# Altium footprint library Barrel - Power Connectors.PcbLib: 1 footprints
Each footprint in its own frame and in the unit in brackets; x right, y up, seen from the top. Pads: shape width x height; smd on the part's side, far side on the other; paste and mask are expansions set on the pad; w line width, h text height; cw(c..) or ccw(c..) is an arc to the next point about the centre after c.
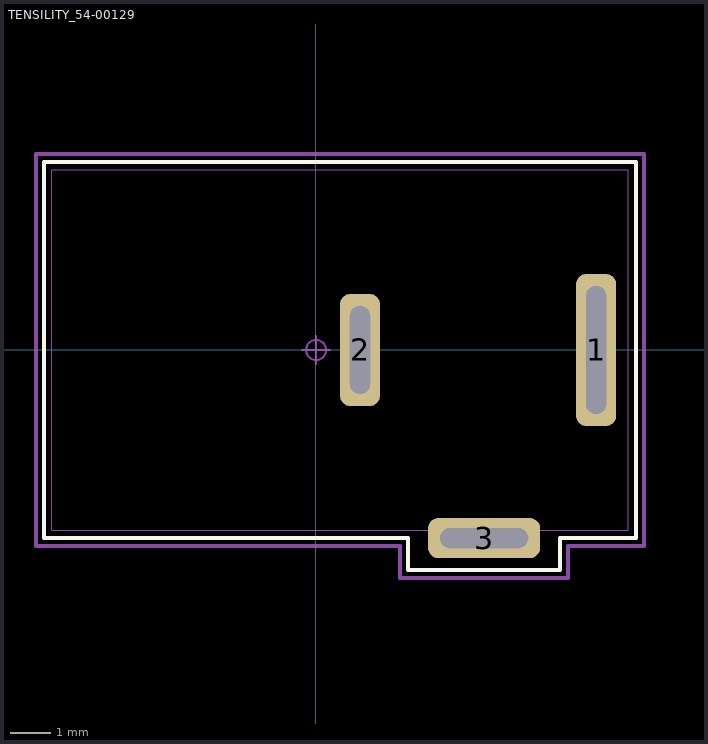
[diagram p0: the footprint, top view; thin cyan lines are the x and y axes]

## TENSILITY_54-00129 [mm]
pads (3):
  rrect50% 1x3.8 hole 0.5 slot 3.2 at 90 deg mask+0.04: 1(7,0)
  rrect50% 1x2.8 hole 0.5 slot 2.2 at 90 deg mask+0.04: 2(1.1,0)
  rrect50% 2.8x1 hole 0.5 slot 2.2 at 0 deg mask+0.04: 3(4.2,-4.7)
Top Overlay:
  lines w0.1: -6.8,-4.7 2.3,-4.7 2.3,-5.5 6.1,-5.5 6.1,-4.7 8,-4.7 8,4.7 -6.8,4.7 -6.8,-4.7
Mechanical 13:
  lines w0.025: -6.6,-4.5 7.8,-4.5 7.8,4.5 -6.6,4.5 -6.6,-4.5
Mechanical 15:
  circle w0.05: c0,0 r0.25
  lines w0.05: -0.35,0 0.35,0 ; 0,-0.35 0,0.35
  lines w0.1: -7,-4.9 2.1,-4.9 2.1,-5.7 6.3,-5.7 6.3,-4.9 8.2,-4.9 8.2,4.9 -7,4.9 -7,-4.9
3D body "54-00129.STEP": height 10.8, standoff -3.7, extent -6.6,-4.88 7.8,4.5